# Altium schematic symbol library HARSH_Payload_SchLib.SchLib: 93 symbols (part 3 of 4)
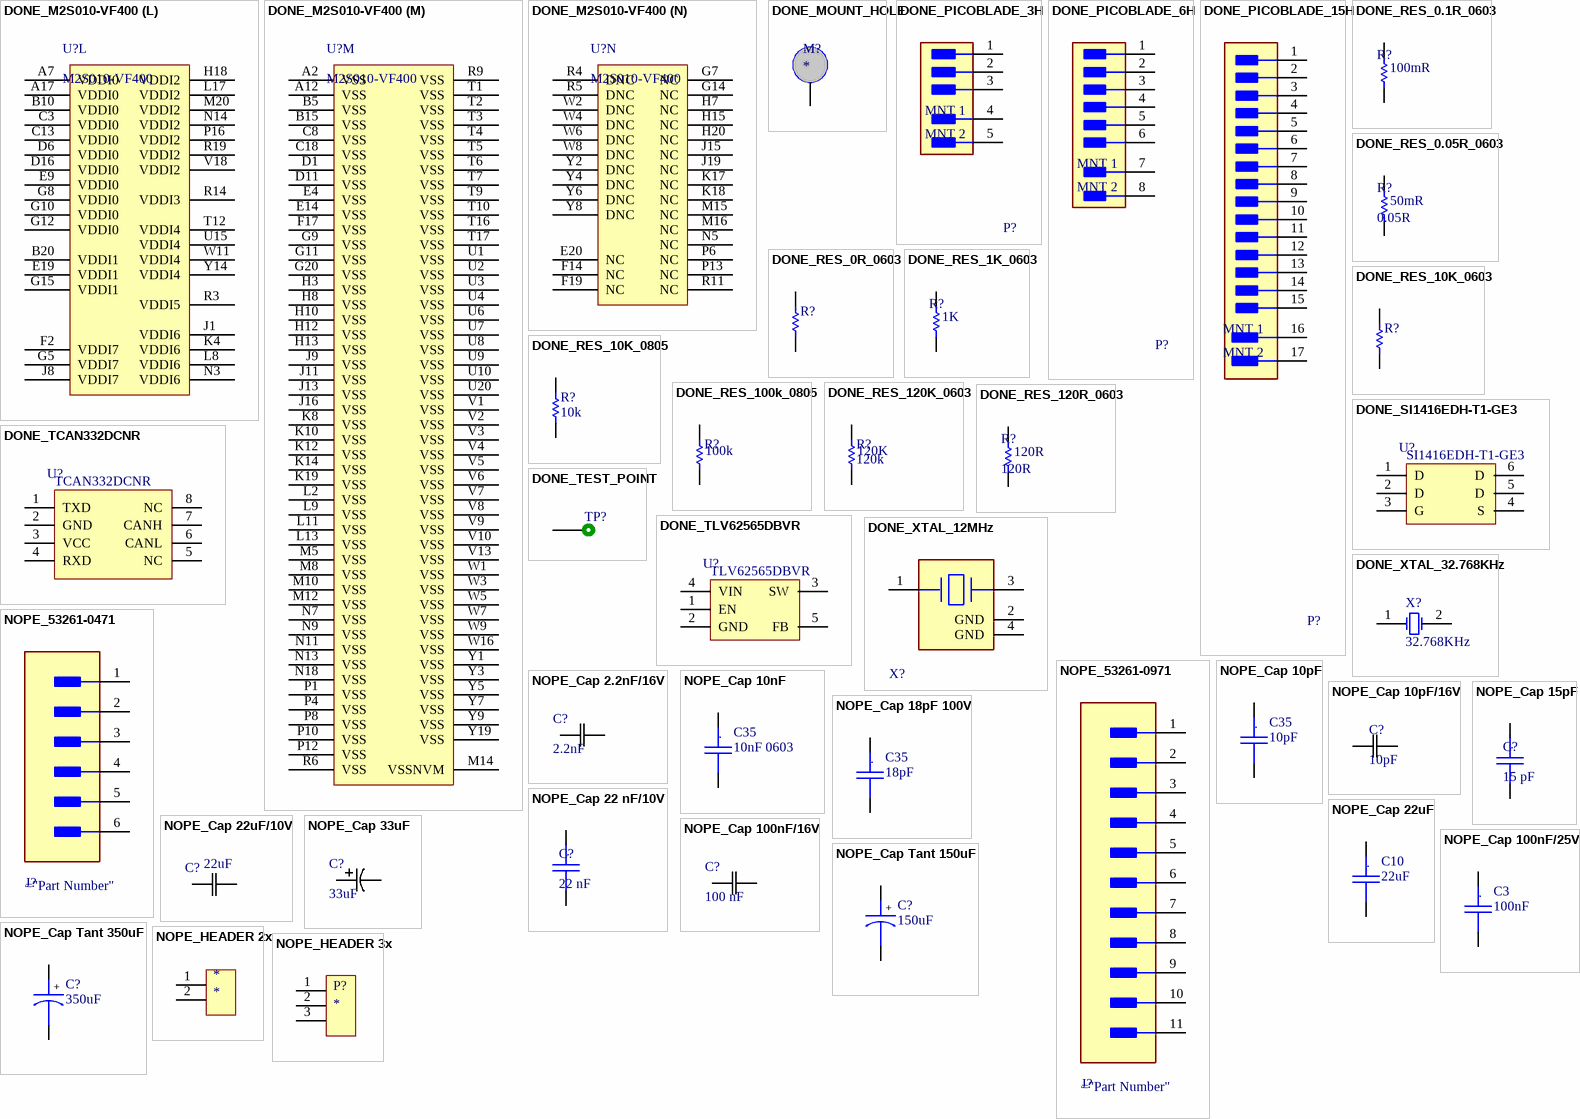
[diagram p5: symbols DONE_M2S010-VF400 to NOPE_HEADER 3x]

## DONE_RES_100k_0805
designator R?, comment 100k
RES 100K OHM 1/8W 1% 0805; Partnumber: AC0805FR-13100KL; Manufacturer: Yageo; Manufacturer Part Number: RC0805FR-07100KL; Temperature Coefficient: 100ppm/°C; Power Rating: 125mW; Voltage Rating (DC): 150V; NCM: 8533.21.20; ComponentLink1Description: https://www.digikey.com/product-detail/en/yageo/RC0805FR-07100KL/311-100KCRCT-ND/730491; ComponentLink1URL: https://www.digikey.com/product-detail/en/yageo/RC0805FR-07100KL/311-100KCRCT-ND/730491; ComponentLink2Description: https://br.mouser.com/ProductDetail/Yageo/RC0805FR-07100KL?qs=%2Fha2pyFadugqH4HCO4lefXR2vnSIcQedeLFD%252BIWbuSwm%252BtiKkObUBg%3D%3D; ComponentLink2URL: https://br.mouser.com/ProductDetail/Yageo/RC0805FR-07100KL?qs=%2Fha2pyFadugqH4HCO4lefXR2vnSIcQedeLFD%252BIWbuSwm%252BtiKkObUBg%3D%3D; Supplier 1: Digi-Key; Supplier Part Number 1: 311-100KCRCT-ND; Stock 1: 5685931; Pricing 1: 1=0.1, 10=0.04, 100=0.0163, 1000=0.00731, 2500=0.00635 (USD); Case/Package: 0805; Number of Pins: 2; Case Code (Metric): 2012; Case Code (Imperial): 0805; Min Operating Temperature: -55°C; Max Operating Temperature: 155°C; Composition: Thick Film; Tolerance: 1%; Packaging: Tape and Reel; Voltage Rating: 150V; Package Quantity: 1; Number of Terminations: 2; Termination: SMD/SMT; Military Standard: Not; Max Power Dissipation: 125mW; Features: Moisture Resistant; Length: 2mm; Height: 0.024inch; Width: 0.049inch; Depth: 1.25mm; Lead Pitch: 0.4mm; REACH SVHC: Unknown; Lead Free: Lead Free; ComponentLink3URL: http://www.yageo.com/documents/recent/PYu-RC_Group_51_RoHS_L_10.pdf?src-supplier=Digi-Key; ComponentLink3Description: http://www.yageo.com/documents/recent/PYu-RC_Group_51_RoHS_L_10.pdf?src-supplier=Digi-Key; ComponentLink4URL: http://www.yageo.com/documents/recent/PYu-RC_Group_51_RoHS_L_9.pdf?src-supplier=Mouser; ComponentLink4Description: http://www.yageo.com/documents/recent/PYu-RC_Group_51_RoHS_L_9.pdf?src-supplier=Mouser; ComponentLink5URL: http://documents.rs-components.com/techlib://itc_doclist_GB.htm?stockno=6185113&src-supplier=RSComponents; ComponentLink5Description: http://documents.rs-components.com/techlib://itc_doclist_GB.htm?stockno=6185113&src-supplier=RSComponents; ComponentLink6URL: http://www.yageo.ru/pdf/RC0805.pdf?src-supplier=Future+Electronics; ComponentLink6Description: http://www.yageo.ru/pdf/RC0805.pdf?src-supplier=Future+Electronics; ComponentLink7URL: http://www.farnell.com/datasheets/38627.pdf?src-supplier=Element14; ComponentLink7Description: http://www.farnell.com/datasheets/38627.pdf?src-supplier=Element14; ComponentLink8URL: http://www.farnell.com/datasheets/2167052.pdf?src-supplier=Element14; ComponentLink8Description: http://www.farnell.com/datasheets/2167052.pdf?src-supplier=Element14; ComponentLink9URL: http://www.farnell.com/datasheets/1686128.pdf?src-supplier=Element14; ComponentLink9Description: http://www.farnell.com/datasheets/1686128.pdf?src-supplier=Element14; ComponentLink10URL: http://www.farnell.com/datasheets/444164.pdf?src-supplier=Element14; ComponentLink10Description: http://www.farnell.com/datasheets/444164.pdf?src-supplier=Element14; Supplier 2: Mouser; Supplier Part Number 2: 603-RC0805FR-07100KL; Stock 2: 2067874; Pricing 2: 1=0.13, 10=0.031, 100=0.011, 1000=0.008, 5000=0.005, 10000=0.005 (USD); Resistance: 100k
footprint DONE_R0805 (Chip Resistor, Body 2.0x1.3mm, IPC Medium Density)
pins: 1, 2

## DONE_RES_120K_0603
designator R?, comment 120k
1/10W 1%  0603; Partnumber: CRCW0603120KFKEAC; Manufacturer: Vishay Beyschlag; Power Rating: 100mW; Voltage Rating: 75V; NCM: 8533.21.20; Manufacturer Part Number: CRCW0603120KFKEAC; Case/Package: 0603; Weight: 7.1E-05oz; Case Code (Imperial): 0603; Case Code (Metric): 1608; Min Operating Temperature: -55°C; Max Operating Temperature: 155°C; Packaging: Tape and Reel; Tolerance: 1%; Termination: SMD/SMT; Composition: Thin Film; Length: 1.55mm; Height: 0.45mm; Width: 0.8mm; Resistance: 120K
footprint DONE_R0603 (Chip Resistor, Body 1.6x0.8mm, IPC Medium Density)
pins: 1, 2

## DONE_RES_120R_0603
designator R?, comment 120R
120R 1% 0603; Partnumber: RC0603FR-07120RL; Resistance: 120R
footprint DONE_R0603 (Chip Resistor, Body 1.6x0.8mm, IPC Medium Density)
pins: 1, 2

## DONE_SI1416EDH-T1-GE3
designator U?, comment SI1416EDH-T1-GE3
MOSFET 30V Vds 12V Vgs SC70-6 SOT-363-6; Manufacturer: Vishay; Mount Type: SMD; Category: MOSFET; Partnumber: SI1416EDH-T1-GE3
footprint DONE_SOT363_6 (SOT23, 6-Leads, Body 2.2x1.35mm, Pitch 0.65mm, IPC Medium Density, NXP-SOT363_N)
pins: 1 D, 2 D, 3 G, 4 S, 5 D, 6 D
1 alternate drawing of the same symbol

## DONE_TCAN332DCNR
designator U?, comment TCAN332DCNR
Tranceiver CAN, 8-pin SOT23; Manufacturer: Texas Instruments; Mounting Technology: Surface Mount; ComponentLink1Description: Manufacturer URL; ComponentLink2Description: Datasheet; ComponentLink3URL: http://cds.linear.com/docs/en/packaging/SOT_8_05-08-1637.pdf; ComponentLink1URL: http://www.linear.com/; ComponentLink2URL: http://cds.linear.com/docs/en/datasheet/436112fb.pdf; ComponentLink3Description: Package Specification; PackageDescription: 8-Pin Plastic TSOT-23, Body 2.9 x 1.63 mm, Pitch 0.65 mm; Partnumber: TCAN332DCNR
footprint DONE_TSOT_23_8 (SOT23, 8-Leads, Body 2.9x1.75mm, Pitch 0.65mm, LT-TS8-8-TSOT-23_V)
pins: 1 TXD, 2 GND, 3 VCC, 4 RXD, 5 NC, 6 CANL, 7 CANH, 8 NC

## DONE_TEST_POINT
designator TP?, comment TEST_POINT  (value not drawn)  (no BOM)
Test point
footprint DONE_TEST_POINT
pins: 1

## DONE_TLV62565DBVR
designator U?, comment TLV62565DBVR
IC REG BUCK ADJ 1.5A SOT23-5; Manufacturer: Texas Instruments; Mount Type: SMD; Category: Regulator; Partnumber: TLV62565DBVR
footprint DONE_SOT23_5
pins: 1 EN, 2 GND, 3 SW, 4 VIN, 5 FB
1 alternate drawing of the same symbol

## DONE_XTAL_12MHz
designator X?, comment ABM8AIG-12.000MHz-12-D2Z-T  (value not drawn)
Crystals 12MHz 12pF 20ppm ESR 100 -40C +85C; Partnumber: ABM8AIG-12.000MHz-12-D2Z-T
footprint DONE_XTAL_ABM8AIG (Abracon_LLC_ABM8AIG_MFG)
pins: 1 1 Crystal, 2 GND (power), 3 2 Crystal, 4 GND (power)

## DONE_XTAL_32.768KHz
designator X?, comment 32.768KHz
Partnumber: LFXTAL009678REEL; Published: 8-Jun-2000; LatestRevisionDate: 17-Jul-2002; LatestRevisionNote: Re-released for DXP Platform.; PackageReference: R38; Publisher: Altium Limited; PackageDescription: Crystal, Thru-Hole; 2 Leads; Body 3.1 x 8.2 mm (Dia.xH)
simulation model XTAL (Spice Subcircuit)
footprint DONE_XTAL (Crystal)
pins: 1 OSC1, 2 OSC2

## NOPE_53261-0471
designator J?  (value not drawn)
footprint Molex_53261-0471_0
pins: 1, 2, 3, 4, 5 MNT 1, 6 MNT 2

## NOPE_53261-0971
designator J?  (value not drawn)
footprint Molex_53261-0971_0
pins: 1, 2, 3, 4, 5, 6, 7, 8, 9, 10 MNT 1, 11 MNT 2

## NOPE_Cap 2.2nF/16V
designator C?, comment 2.2nF
Imported; Manufacturer_Part_Number: GRM155R71C222KA01D; Vendor: Murata; Built_By: EMA_UL_Team; Type: DEV; C: Copyright (C) 2015 Accelerated Designs. All rights reserved; Tolerance: 10%; Dielectric: X7R; Voltage Rating: 16V; RefDes: RefDes; Value: Value; Supplier 1: Digi-Key; Manufacturer: Murata; Manufacturer Part Number: GRM155R71C222KA01D; Stock 1: 125973; Pricing 1: 1=0.1, 10=0.03, 100=0.0134, 500=0.0096, 1000=0.0075, 2500=0.0068, 5000=0.0063 (USD); Mount: Surface Mount; Case/Package: 0402; Case Code (Metric): 1005; Case Code (Imperial): 0402; Min Operating Temperature: -55°C; Max Operating Temperature: 125°C; Capacitance: 2.2nF; Package Quantity: 10000; Packaging: Tape and Reel; Termination: SMD/SMT; Voltage Rating (DC): 16V; Length: 1mm; Height: 0.5mm; Width: 0.02inch; Thickness: 0.022inch; Depth: 0.5mm; Radiation Hardening: No; Lead Free: Lead Free; ComponentLink1URL: https://datasheet.ciiva.com/5412/product-5412216.pdf; ComponentLink1Description: https://datasheet.ciiva.com/5412/product-5412216.pdf; ComponentLink2URL: https://datasheet.ciiva.com/6263/partnumbering-e-01-6263624.pdf; ComponentLink2Description: https://datasheet.ciiva.com/6263/partnumbering-e-01-6263624.pdf; ComponentLink3URL: https://datasheet.ciiva.com/6263/partnumbering-e-01-6263627.pdf; ComponentLink3Description: https://datasheet.ciiva.com/6263/partnumbering-e-01-6263627.pdf; ComponentLink4URL: https://datasheet.ciiva.com/17453/product-17453067.pdf; ComponentLink4Description: https://datasheet.ciiva.com/17453/product-17453067.pdf; ComponentLink5URL: https://datasheet.ciiva.com/11620/product-11620860.pdf; ComponentLink5Description: https://datasheet.ciiva.com/11620/product-11620860.pdf; ComponentLink6URL: https://datasheet.ciiva.com/6263/partnumbering-e-01-6263630.pdf; ComponentLink6Description: https://datasheet.ciiva.com/6263/partnumbering-e-01-6263630.pdf; Supplier Part Number 1: 490-6330-1-ND
footprint G-155
pins: 1, 2

## NOPE_Cap 10nF
designator C35, comment 10nF 0603
CAP CER 10nF 16V 0603; NCM: 8532.24.10
footprint 0603 Cap
pins: 1, 2
text: .

## NOPE_Cap 10pF
designator C35, comment 10pF
CAP CER 10pF 50V 0603; Partnumber: GQM1885C1H100GB01D; NCM: 8532.24.10
footprint CC0603 (TDK mlccspec_commercial_general_midvoltage_en.pdf)
pins: 1, 2
text: .

## NOPE_Cap 10pF/16V
designator C?, comment 10pF
Manufacturer: KEMET; Manufacturer Part Number: C0402C100J4GACTU; Dielectric Material: Ceramic; Tolerance: 5%; Dielectric: C0G; Voltage Rating (DC): 16V; Dissipation Factor: 0.1%; Supplier 1: Digi-Key; Stock 1: 0; Pricing 1: 10000=0.0543 (USD); Mount: Surface Mount; Case/Package: 0402; Case Code (Metric): 1005; Case Code (Imperial): 0402; Min Operating Temperature: -55°C; Max Operating Temperature: 125°C; Capacitance: 10pF; Packaging: Tape and Reel; Package Quantity: 10000; Voltage Rating: 16V; Termination: SMD/SMT; Length: 1mm; Height: 0.5mm; Depth: 0.5mm; Width: 0.02inch; Thickness: 0.022inch; Lead Pitch: 0.3mm; Lead Free: Lead Free; ComponentLink1URL: http://www.mouser.com/ds/2/212/KEM_C1003_C0G_SMD-1101588.pdf; ComponentLink1Description: http://www.mouser.com/ds/2/212/KEM_C1003_C0G_SMD-1101588.pdf; ComponentLink2URL: http://components.arrow.com/part/dataview/3375373S9473221N7429; ComponentLink2Description: http://components.arrow.com/part/dataview/3375373S9473221N7429; ComponentLink3URL: http://www.kemet.com/docfinder?Partnumber=C0402C100J4GACTU; ComponentLink3Description: http://www.kemet.com/docfinder?Partnumber=C0402C100J4GACTU; Supplier Part Number 1: C0402C100J4GACTU-ND
footprint 0402m (0402M)
pins: 1, 2

## NOPE_Cap 15pF
designator C?, comment 15 pF
Manufacturer: KEMET; Manufacturer Part Number: C0402C150J4GACTU; Dielectric Material: Ceramic; Capacitance: 15pF; Tolerance: 5%; Voltage Rating (DC): 16V; Dielectric: C0G; Dissipation Factor: 0.1%; Supplier 1: Digi-Key; Stock 1: 788; Pricing 1: 1=0.1, 10=0.022, 100=0.0099, 500=0.007, 1000=0.0055, 2500=0.005, 5000=0.0046 (USD); Mount: Surface Mount; Case/Package: 0402; Case Code (Metric): 1005; Case Code (Imperial): 0402; Min Operating Temperature: -55°C; Max Operating Temperature: 125°C; Packaging: Tape and Reel; Package Quantity: 1; Voltage Rating: 16V; Termination: SMD/SMT; Length: 1mm; Height: 0.5mm; Depth: 0.5mm; Width: 0.02inch; Thickness: 0.022inch; Lead Pitch: 0.3mm; Lead Free: Lead Free; REACH SVHC: No SVHC; ComponentLink1URL: https://datasheet.ciiva.com/5416/kem-c1003-c0g-smd-356956-5416437.pdf; ComponentLink1Description: https://datasheet.ciiva.com/5416/kem-c1003-c0g-smd-356956-5416437.pdf; Supplier Part Number 1: 399-8947-1-ND
footprint 0402m (0402M)
pins: 1, 2
text: .

## NOPE_Cap 18pF 100V
designator C35, comment 18pF
CAP CER 10pF 100V; Manufacturer: Murata; Manufacturer Part Number: GRM1555C2A180JA01D; Tolerance: 5%; Dielectric: C0G; Supplier 1: Digi-Key; Stock 1: 143735; Pricing 1: 1=0.11, 10=0.078, 100=0.0345, 500=0.0247, 1000=0.0194, 2500=0.0176, 5000=0.0162 (USD); Mount: Surface Mount; Case/Package: 0402; Weight: 0.000212oz; Case Code (Metric): 1005; Case Code (Imperial): 0402; Min Operating Temperature: -55°C; Max Operating Temperature: 125°C; Package Quantity: 10000; Packaging: Tape and Reel; Capacitance: 18pF; Voltage Rating: 100V; Voltage Rating (DC): 100V; Termination: SMD/SMT; Length: 0.039inch; Height: 0.5mm; Width: 0.02inch; Thickness: 0.022inch; Lead Free: Lead Free; ComponentLink1URL: https://datasheet.ciiva.com/18699/partnumbering-e-01-18699434.pdf; ComponentLink1Description: https://datasheet.ciiva.com/18699/partnumbering-e-01-18699434.pdf; ComponentLink2URL: https://datasheet.ciiva.com/18699/partnumbering-e-01-18699435.pdf; ComponentLink2Description: https://datasheet.ciiva.com/18699/partnumbering-e-01-18699435.pdf; ComponentLink3URL: https://datasheet.ciiva.com/18699/partnumbering-e-01-18699436.pdf; ComponentLink3Description: https://datasheet.ciiva.com/18699/partnumbering-e-01-18699436.pdf; ComponentLink4URL: https://datasheet.ciiva.com/24220/c02e-24220655.pdf; ComponentLink4Description: https://datasheet.ciiva.com/24220/c02e-24220655.pdf; Supplier Part Number 1: 490-7302-1-ND
footprint 0402m (0402M)
pins: 1, 2
text: .

## NOPE_Cap 22 nF/10V
designator C?, comment 22 nF
Manufacturer: KEMET; Manufacturer Part Number: C0402C223K8PACTU; Dielectric Material: Ceramic; Capacitance: 22nF; Tolerance: 10%; Voltage Rating (DC): 10V; Dielectric: X5R; Dissipation Factor: 5%; Supplier 1: Digi-Key; Stock 1: 166249; Pricing 1: 1=0.28, 10=0.19, 100=0.1075, 500=0.0759, 1000=0.0664, 2500=0.0633, 5000=0.0585 (USD); Mount: Surface Mount,PCB; Case/Package: 0402; Case Code (Metric): 1005; Case Code (Imperial): 0402; Min Operating Temperature: -55°C; Max Operating Temperature: 85°C; Packaging: Tape and Reel; Voltage Rating: 10V; Package Quantity: 1; Termination: SMD/SMT; Voltage: 10V; Length: 1mm; Height: 0.5mm; Depth: 0.5mm; Width: 0.02inch; Thickness: 0.022inch; Lead Pitch: 0.3mm; Radiation Hardening: No; Lead Free: Lead Free; REACH SVHC: No SVHC; ComponentLink1URL: https://datasheet.ciiva.com/146/docfinderpartnumber-c0402c223k8pactu-146023.pdf; ComponentLink1Description: https://datasheet.ciiva.com/146/docfinderpartnumber-c0402c223k8pactu-146023.pdf; Supplier Part Number 1: 399-3015-1-ND
footprint 0402m (0402M)
pins: 1, 2
text: .

## NOPE_Cap 22uF
designator C10, comment 22uF
CAP CER 22uF 25V 10% X5R 1210; Partnumber: GRM32ER61E226KE15L; NCM: 8532.24.10
footprint CC1210 (TDK mlccspec_commercial_general_midvoltage_en.pdf)
pins: 1, 2
text: .

## NOPE_Cap 22uF/10V
designator C?, comment 22uF
Imported; Manufacturer_Part_Number: GRM188R61A226ME15D; Vendor: Murata; Built_By: EMA_UL_Team; Type: DEV; C: Copyright (C) 2016 Accelerated Designs. All rights reserved; Material: Ceramic; Tolerance: 20%; Voltage Rating: 10V; Dielectric: X5R; RefDes: RefDes; Value: Value; Supplier 1: Digi-Key; Manufacturer: Murata; Manufacturer Part Number: GRM188R61A226ME15D; Stock 1: 15185; Pricing 1: 1=0.31, 10=0.216, 100=0.1222, 500=0.0863, 1000=0.0755 (USD); Mount: Surface Mount; Case/Package: 0603; Weight: 0.000222oz; Case Code (Metric): 1608; Case Code (Imperial): 0603; Min Operating Temperature: -55°C; Max Operating Temperature: 85°C; Packaging: Tape and Reel; Termination: SMD/SMT; Voltage Rating (DC): 10V; Package Quantity: 4000; Length: 1.6mm; Height: 0.8mm; Width: 0.8mm; Thickness: 0.039inch; Depth: 0.8mm; REACH SVHC: No SVHC; Lead Free: Lead Free; ComponentLink1URL: https://datasheet.ciiva.com/46444/1769893-46444975.pdf; ComponentLink1Description: https://datasheet.ciiva.com/46444/1769893-46444975.pdf; Supplier Part Number 1: 490-10476-6-ND; Capacitance: 22uF
footprint CAP_GRM18ME15D_1
footprint CAP_GRM18ME15D_1 (Footprint not found)
pins: 1, 2

## NOPE_Cap 33uF
designator C?, comment 33uF
Imported; Manufacturer_Part_Number: F930J336MAA; Vendor: Nichicon; Built_By: EMA_UL_Team; Type: DEV; C: Copyright (C) 2015 Accelerated Designs. All rights reserved; RefDes: RefDes; Value: Value
footprint PCAP134X71
pins: 1, 2

## NOPE_Cap 100nF/16V
designator C?, comment 100 nF
Imported; Manufacturer_Part_Number: C1005JB1C104K050BA; Vendor: TDK; Built_By: EMA_UL_Team; Type: DEV; C: Copyright (C) 2015 Accelerated Designs. All rights reserved; Dielectric Material: Ceramic; Capacitance: 100nF; Tolerance: 10%; Voltage Rating: 16V; RefDes: RefDes; Value: Value; Supplier 1: Digi-Key; Manufacturer: TDK; Manufacturer Part Number: C1005JB1C104K050BA; Stock 1: 280389; Pricing 1: 1=0.1, 10=0.054, 100=0.0239, 500=0.0171, 1000=0.0134, 2500=0.0122, 5000=0.0112 (USD); Mount: Surface Mount; Case/Package: 0402; Weight: 0.001199oz; Case Code (Metric): 1005; Case Code (Imperial): 0402; Min Operating Temperature: -25°C; Max Operating Temperature: 85°C; Package Quantity: 10000; Packaging: Tape and Reel; Termination: SMD/SMT; Composition: Ceramic; Voltage Rating (DC): 16V; Length: 0.039inch; Height: 0.5mm; Width: 0.5mm; Thickness: 0.022inch; Lead Free: Lead Free; ComponentLink1URL: https://datasheet.ciiva.com/14901/tdkmlcccaprange-14901675.pdf; ComponentLink1Description: https://datasheet.ciiva.com/14901/tdkmlcccaprange-14901675.pdf; ComponentLink2URL: https://datasheet.ciiva.com/14901/tdkmlcccaprange-14901676.pdf; ComponentLink2Description: https://datasheet.ciiva.com/14901/tdkmlcccaprange-14901676.pdf; ComponentLink3URL: https://datasheet.ciiva.com/14901/tdkmlcccaprange-14901678.pdf; ComponentLink3Description: https://datasheet.ciiva.com/14901/tdkmlcccaprange-14901678.pdf; Supplier Part Number 1: 445-10920-1-ND
footprint 0402M
pins: 1, 2

## NOPE_Cap 100nF/25V
designator C3, comment 100nF
CAP CER 0.1UF 25V 10% X7R 0805; Partnumber: CC0805KRX7R8BB104; NCM: 8532.24.10
footprint CC0805 (TDK mlccspec_commercial_general_midvoltage_en.pdf)
pins: 1, 2
text: .

## NOPE_Cap Tant 150uF
designator C?, comment 150uF
CAP Tantalum 150uF 6.3V 10% CASE D; Partnumber: TPSD157K006R0050; NCM: 8532.21.11
footprint CC2917 (Molded Capacitor, 2-Leads, Body 7,30x4,35mm, IPC Medium Density)
pins: 1, 2
text: +

## NOPE_Cap Tant 350uF
designator C?, comment 350uF
CAP Tantalum 150uF 6.3V 10% CASE D; Manufacturer: Kyocera AVX; Manufacturer Part Number: TPSE337K010T0060V; Supplier 1: Mouser; Stock 1: 0; ComponentLink1Description: digikey; ComponentLink1URL: https://www.digikey.com/product-detail/en/avx-corporation/TPSE337K010T0060V/478-11253-2-ND/7567003; Supplier Part Number 1: 581-TPSE337K010T060V
footprint CC2917 (Molded Capacitor, 2-Leads, Body 7,30x4,35mm, IPC Medium Density)
pins: 1, 2
text: +

## NOPE_HEADER 2x
designator *
Conn Unshrouded Header HDR 2 POS 2.54mm Solder RA Thru-Hole Automotive Bulk; Manufacturer: Samtec; Manufacturer Part Number: TSW-102-08-G-S-RA; Number of Positions: 2; Connector Type: Male Pin; Gender: Male; Max Current Rating: 7.6A; Max Voltage Rating (AC): 450V; Supplier 1: Digi-Key; Stock 1: 681; Pricing 1: 1=0.28, 10=0.269, 25=0.2304, 50=0.1958, 100=0.1882, 250=0.16896, 500=0.16128 (USD); Contact Plating: Gold; Contact Material: Bronze; Color: Black; Housing Color: Black; Housing Material: Polyester; Min Operating Temperature: -55°C; Max Operating Temperature: 125°C; Number of Rows: 1; Termination: Solder; Packaging: Bulk; Number of Contacts: 2; Orientation: Right Angle; Package Quantity: 1; Length: 5.08mm; Pitch: 2.54mm; Width: 2.54mm; Depth: 9.9mm; Contact Mating Length: 0.23inch; Radiation Hardening: No; Lead Free: Lead Free; REACH SVHC: No SVHC; Supplier Part Number 1: SAM1039-02-ND; ComponentLink3Description: https://www.digikey.com/product-detail/en/samtec-inc/TSW-102-08-G-S-RA/SAM1039-02-ND/1101822; ComponentLink3URL: https://www.digikey.com/product-detail/en/samtec-inc/TSW-102-08-G-S-RA/SAM1039-02-ND/1101822; ComponentLink4Description: https://br.mouser.com/ProductDetail/Samtec/TSW-102-08-G-S-RA?qs=sGAEpiMZZMs%252BGHln7q6pm8Vn94ktop%2FJ1uezLg%252BX1dFCcXJp94NfRw%3D%3D; ComponentLink4URL: https://br.mouser.com/ProductDetail/Samtec/TSW-102-08-G-S-RA?qs=sGAEpiMZZMs%252BGHln7q6pm8Vn94ktop%2FJ1uezLg%252BX1dFCcXJp94NfRw%3D%3D; ComponentLink1URL: http://www.samtec.com/ftppub/pdf/htsw_th.pdf?src-supplier=Avnet; ComponentLink1Description: http://www.samtec.com/ftppub/pdf/htsw_th.pdf?src-supplier=Avnet; ComponentLink2URL: http://suddendocs.samtec.com/prints/tsw-xxx-xx-x-x-xx-xxx-footprint.pdf?src-supplier=Digi-Key; ComponentLink2Description: http://suddendocs.samtec.com/prints/tsw-xxx-xx-x-x-xx-xxx-footprint.pdf?src-supplier=Digi-Key; Supplier 2: Mouser; Supplier Part Number 2: 200-TSW10208GSRA; Stock 2: 90; Pricing 2: 1=0.29, 10=0.203, 100=0.167, 1000=0.14, 2500=0.119, 10000=0.108 (USD)
footprint HEADER 1X2
pins: 1, 2

## NOPE_HEADER 3x
designator P?
Conn Unshrouded Header HDR 3 POS 2.54mm Solder RA Thru-Hole Automotive Bulk; Manufacturer: Samtec; Manufacturer Part Number: TSW-103-08-G-S-RA; Number of Contacts: 3; Connector Type: Male Pin; Gender: Male; Max Current Rating: 7.6A; Max Voltage Rating (AC): 450V; Supplier 1: Digi-Key; Stock 1: 2099; Pricing 1: 1=0.43, 10=0.403, 25=0.3456, 50=0.2938, 100=0.2822, 250=0.25344, 500=0.24192 (USD); Contact Plating: Gold; Contact Material: Bronze; Color: Black; Housing Color: Black; Housing Material: Polyester; Min Operating Temperature: -55°C; Max Operating Temperature: 125°C; Number of Rows: 1; Termination: Solder; Packaging: Bulk; Number of Positions: 3; Package Quantity: 1; Orientation: Right Angle; Length: 7.62mm; Pitch: 2.54mm; Depth: 9.9mm; Contact Mating Length: 0.23inch; Width: 2.54mm; Radiation Hardening: No; REACH SVHC: No SVHC; Lead Free: Lead Free; Supplier Part Number 1: SAM1039-03-ND; ComponentLink4Description: https://www.digikey.com/product-detail/en/samtec-inc/TSW-103-08-G-S-RA/SAM1039-03-ND/1101821; ComponentLink4URL: https://www.digikey.com/product-detail/en/samtec-inc/TSW-103-08-G-S-RA/SAM1039-03-ND/1101821; ComponentLink5Description: https://br.mouser.com/ProductDetail/Samtec/TSW-103-08-G-S-RA?qs=sGAEpiMZZMs%252BGHln7q6pm1g2HIpDMMemHovqpYNR5zQ9xV6Y7S0zpg%3D%3D; ComponentLink5URL: https://br.mouser.com/ProductDetail/Samtec/TSW-103-08-G-S-RA?qs=sGAEpiMZZMs%252BGHln7q6pm1g2HIpDMMemHovqpYNR5zQ9xV6Y7S0zpg%3D%3D; ComponentLink1URL: http://www.samtec.com/ftppub/pdf/htsw_th.pdf?src-supplier=Avnet+Europe; ComponentLink1Description: http://www.samtec.com/ftppub/pdf/htsw_th.pdf?src-supplier=Avnet+Europe; ComponentLink2URL: http://www.samtec.com/ftppub/pdf/htsw_th.pdf?src-supplier=Avnet; ComponentLink2Description: http://www.samtec.com/ftppub/pdf/htsw_th.pdf?src-supplier=Avnet; ComponentLink3URL: http://suddendocs.samtec.com/prints/tsw-xxx-xx-x-x-xx-xxx-footprint.pdf?src-supplier=Digi-Key; ComponentLink3Description: http://suddendocs.samtec.com/prints/tsw-xxx-xx-x-x-xx-xxx-footprint.pdf?src-supplier=Digi-Key; Supplier 2: Mouser; Supplier Part Number 2: 200-TSW10308GSRA; Stock 2: 1859; Pricing 2: 1=0.44, 10=0.303, 100=0.249, 1000=0.208, 2500=0.178, 10000=0.16 (USD)
footprint Header1x3
pins: 1, 2, 3

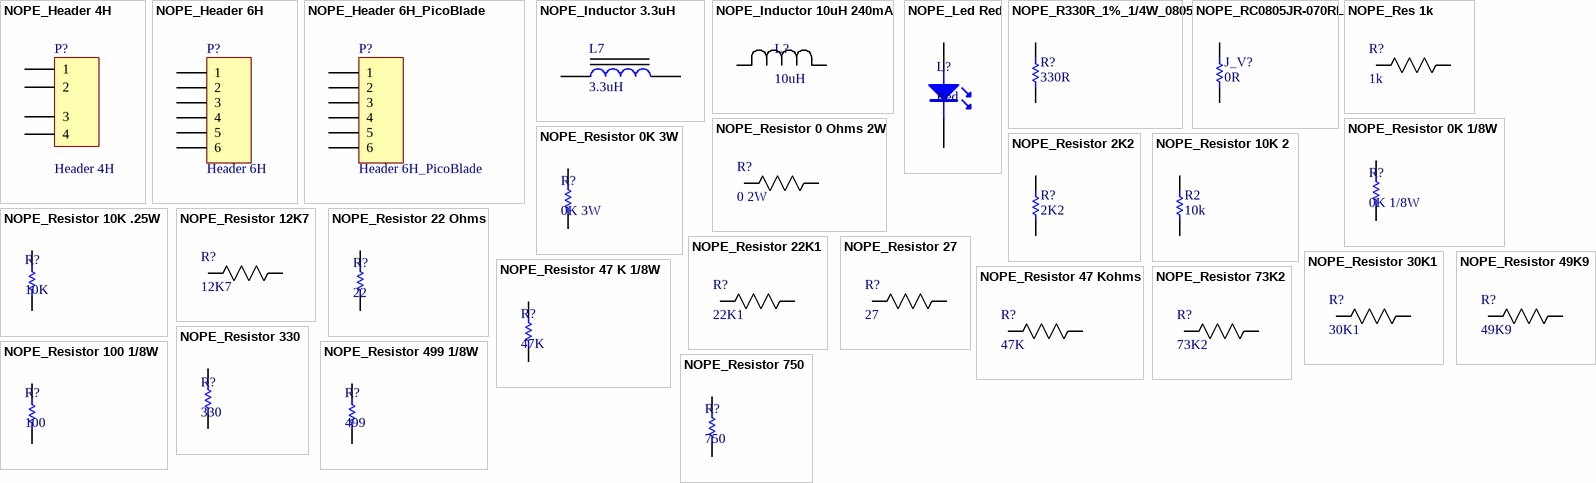
[diagram p3: symbols NOPE_Header 4H to NOPE_Resistor 750]

## NOPE_Header 4H
designator P?, comment Header 4H
Header, 4-Pin, Right Angle; LatestRevisionDate: 17-Jul-2002; LatestRevisionNote: Re-released for DXP Platform.; Publisher: Altium Limited
footprint HDR1X4 (Connector; Header; 4 Position)
pins: 1, 2, 3, 4

## NOPE_Header 6H
designator P?, comment Header 6H
Header, 6-Pin, Right Angle; LatestRevisionDate: 17-Jul-2002; LatestRevisionNote: Re-released for DXP Platform.; Publisher: Altium Limited
footprint HDR1X6H (Connector; Header; 6 Position; Right Angle)
signal-integrity model Connector
pins: 1, 2, 3, 4, 5, 6

## NOPE_Header 6H_PicoBlade
designator P?, comment Header 6H_PicoBlade
Header, 6-Pin, Right Angle; Partnumber: 53398-0671; LatestRevisionDate: 17-Jul-2002; LatestRevisionNote: Re-released for DXP Platform.; Publisher: Altium Limited
footprint HDR6 PicoBlade
signal-integrity model Connector
pins: 1, 2, 3, 4, 5, 6

## NOPE_Inductor 3.3uH
designator L7, comment 3.3uH
INDUCTOR 3.3UH 6.5A SMD; Partnumber: SRP6540-3R3M; NCM: 8504.50.00
footprint Ind_SRP6540
pins: 1, 2

## NOPE_Inductor 10uH 240mA
designator L?, comment 10uH
Manufacturer: KEMET; Manufacturer Part Number: L0805C100MDWIT; Core Material: Ferrite; Tolerance: 20%; Max DC Current: 340mA; Shielding: Unshielded; Current Rating: 240mA; Self Resonant Frequency: 40MHz; DC Resistance (DCR): 1.2R; Test Frequency: 2.52MHz; Supplier 1: Digi-Key; Stock 1: 6518; Pricing 1: 1=0.41, 10=0.356, 100=0.2542, 500=0.2135, 1000=0.1728 (USD); Mount: Surface Mount; Case/Package: 0805; Case Code (Metric): 2012; Case Code (Imperial): 0805; Min Operating Temperature: -40°C; Max Operating Temperature: 105°C; Inductance: 10uh; Packaging: Tape and Reel; Package Quantity: 1; Inductance Tolerance: 20%; Composition: Wirewound,Ceramic; Termination: SMD/SMT; DC Current: 340mA; Military Standard: Not; Length: 0.083inch; Height: 1.25mm; Width: 0.059inch; Height - Seated (Max): 0.041inch; Depth: 1.45mm; Radiation Hardening: No; REACH SVHC: No SVHC; ComponentLink1URL: https://datasheet.ciiva.com/8004/27262-8004846.pdf; ComponentLink1Description: https://datasheet.ciiva.com/8004/27262-8004846.pdf; ComponentLink2URL: https://datasheet.ciiva.com/6699/f3115-6699151.pdf; ComponentLink2Description: https://datasheet.ciiva.com/6699/f3115-6699151.pdf; ComponentLink3URL: https://datasheet.ciiva.com/8004/27262-8004847.pdf; ComponentLink3Description: https://datasheet.ciiva.com/8004/27262-8004847.pdf; Supplier Part Number 1: 399-9582-1-ND
footprint 0805m (0805M)
pins: 1, 2

## NOPE_Led Red
designator L?, comment Red
Manufacturer: Kingbright; Manufacturer Part Number: APHHS1005LSECK/J3-PF; ComponentLink1Description: datasheet; ComponentLink1URL: http://www.kingbrightusa.com/images/catalog/SPEC/APHHS1005LSECK-J3-PF.pdf; Supplier 1: Digi-Key; Stock 1: 2494; Pricing 1: 1=0.57, 10=0.446, 25=0.372, 100=0.3203, 250=0.286, 500=0.246, 1000=0.1899 (USD); Supplier Part Number 1: 754-2123-1-ND
footprint led red (Led Red)
pins: 1 A, 2 K

## NOPE_R330R_1%_1/4W_0805
designator R?, comment 330R
RES 330R OHM 1/4W 1% 0805; Partnumber: RC0805FR-07330RL; Manufacturer: KOA Speer; Manufacturer Part Number: RK73H2ATTD3300F; Power Rating: 125mW; Voltage Rating: 150V; Temperature Coefficient: 100ppm/°C; NCM: 8533.21.20; ComponentLink1Description: https://www.digikey.com/product-detail/en/koa-speer-electronics-inc/RK73H2ATTD3300F/2019-RK73H2ATTD3300FCT-ND/10235463; ComponentLink1URL: https://www.digikey.com/product-detail/en/koa-speer-electronics-inc/RK73H2ATTD3300F/2019-RK73H2ATTD3300FCT-ND/10235463; ComponentLink2Description: https://br.mouser.com/ProductDetail/KOA-Speer/RK73H2ATTD3300F?qs=%2Fha2pyFadugxRkEvlrt8CF%252BQdweyO24kpRel1WKIEPxDUp0ygGBU5A%3D%3D; ComponentLink2URL: https://br.mouser.com/ProductDetail/KOA-Speer/RK73H2ATTD3300F?qs=%2Fha2pyFadugxRkEvlrt8CF%252BQdweyO24kpRel1WKIEPxDUp0ygGBU5A%3D%3D; Supplier 1: Digi-Key; Supplier Part Number 1: 2019-RK73H2ATTD3300FCT-ND; Stock 1: 55895; Pricing 1: 1=0.1, 10=0.033, 100=0.0136, 1000=0.00612, 2500=0.00531 (USD); Case/Package: 0805; Case Code (Imperial): 0805; Case Code (Metric): 2012; Min Operating Temperature: -55°C; Max Operating Temperature: 155°C; Packaging: Tape and Reel; Package Quantity: 5000; Resistance: 330R; Tolerance: 1%; Composition: Thick Film; Termination: SMD/SMT; Military Standard: Not; Length: 2mm; Height: 0.5mm; Width: 1.25mm; Depth: 1.25mm; REACH SVHC: Unknown; Lead Free: Lead Free; ComponentLink3URL: http://www.koaspeer.com/catimages/Products/RK73H/RK73H.pdf?src-supplier=Mouser; ComponentLink3Description: http://www.koaspeer.com/catimages/Products/RK73H/RK73H.pdf?src-supplier=Mouser; ComponentLink4URL: http://www.farnell.com/datasheets/1832268.pdf?src-supplier=Element14; ComponentLink4Description: http://www.farnell.com/datasheets/1832268.pdf?src-supplier=Element14; Supplier 2: Mouser; Supplier Part Number 2: 660-RK73H2ATTD3300F; Stock 2: 0; Pricing 2: 1=0.1, 10=0.033, 100=0.013, 1000=0.005, 5000=0.005, 10000=0.004 (USD)
footprint 0805
pins: 1, 2

## NOPE_RC0805JR-070RL
designator J_V?, comment 0R
RES 0R OHM 1/8W JUMPER 0805; Partnumber: CRCW08050000Z0EA; Manufacturer: Yageo; Manufacturer Part Number: RC0805JR-070RL; Resistance: 0mR; Tolerance: 5%; Power Rating: 125mW; Voltage Rating: 150V; Temperature Coefficient: 200ppm/°C; NCM: 8533.21.20; Supplier 1: Digi-Key; Supplier Part Number 1: 311-0.0ARCT-ND; Stock 1: 10579520; Pricing 1: 1=0.1, 10=0.035, 25=0.0248, 50=0.019, 100=0.014, 250=0.01072, 500=0.00856, 1000=0.00631 (USD); Case/Package: 0805; Number of Pins: 2; Contact Plating: Tin,Matte; Case Code (Imperial): 0805; Case Code (Metric): 2012; Min Operating Temperature: -55°C; Max Operating Temperature: 155°C; Composition: Thick Film; Packaging: Tape and Reel; Voltage Rating (DC): 150V; Termination: SMD/SMT; Military Standard: Not; Length: 2mm; Height: 0.5mm; Width: 1.25mm; Depth: 1.25mm; Radiation Hardening: No; REACH SVHC: Unknown; Lead Free: Lead Free; ComponentLink1URL: http://www.farnell.com/datasheets/2167052.pdf?src-supplier=Element14; ComponentLink1Description: http://www.farnell.com/datasheets/2167052.pdf?src-supplier=Element14; ComponentLink2URL: http://documents.rs-components.com/techlib://itc_doclist_GB.htm?stockno=6185129&src-supplier=RSComponents; ComponentLink2Description: http://documents.rs-components.com/techlib://itc_doclist_GB.htm?stockno=6185129&src-supplier=RSComponents; ComponentLink3URL: https://www.verical.com/server-webapp/html/getDatasheet?partID=330685&src-supplier=Verical; ComponentLink3Description: https://www.verical.com/server-webapp/html/getDatasheet?partID=330685&src-supplier=Verical; Supplier 2: Mouser; Supplier Part Number 2: 603-RC0805JR-070RL; Stock 2: 658275; Pricing 2: 1=0.1, 10=0.005, 100=0.005, 1000=0.005, 5000=0.004, 10000=0.004 (USD)
footprint 0805
pins: 1, 2

## NOPE_Res 1k
designator R?, comment 1k
Imported; Manufacturer: Susumu; Manufacturer Part Number: RR0816P-1023-D-02D; Resistance: 102kR; Tolerance: 0.5%; Power Rating: 62.5mW; Voltage Rating: 75V; Temperature Coefficient: 25ppm/°C; Max Power Dissipation: 63mW; Supplier 1: Digi-Key; Stock 1: 4324; Pricing 1: 1=0.11, 10=0.098, 100=0.0376, 1000=0.0165, 2500=0.0143 (USD); Case/Package: 0603; Case Code (Metric): 1608; Case Code (Imperial): 0603; Min Operating Temperature: -55°C; Max Operating Temperature: 125°C; Package Quantity: 1; Packaging: Tape and Reel; Composition: Thin Film; Number of Terminations: 2; Termination: SMD/SMT; Voltage Rating (DC): 75V; Length: 0.063inch; Height: 0.02inch; Width: 0.031inch; Lead Free: Lead Free; ComponentLink1URL: https://datasheet.ciiva.com/2497/rr-data-sheet-2497771.pdf; ComponentLink1Description: https://datasheet.ciiva.com/2497/rr-data-sheet-2497771.pdf; ComponentLink2URL: https://datasheet.ciiva.com/2497/rr-data-sheet-2497772.pdf; ComponentLink2Description: https://datasheet.ciiva.com/2497/rr-data-sheet-2497772.pdf; ComponentLink3URL: https://datasheet.ciiva.com/2497/rr-data-sheet-2497773.pdf; ComponentLink3Description: https://datasheet.ciiva.com/2497/rr-data-sheet-2497773.pdf; Supplier Part Number 1: RR08P102KDCT-ND
footprint 0402m (0402M)
pins: 1, 2

## NOPE_Resistor 0 Ohms 2W
designator R?, comment 0 2W
Imported; Manufacturer: Stackpole Electronics; Manufacturer Part Number: HCJ2512ZT0R00; Resistance: 0mR; Supplier 1: Digi-Key; Stock 1: 23444; Pricing 1: 1=0.68, 10=0.484, 25=0.3776, 50=0.3194, 100=0.2517, 250=0.213, 500=0.1742, 1000=0.1355 (USD); Mount: Surface Mount; Case/Package: 2512; Case Code (Metric): 6432; Case Code (Imperial): 2512; Min Operating Temperature: -55°C; Max Operating Temperature: 155°C; Packaging: Tape and Reel; Number of Terminations: 2; Length: 0.248inch; Height: 0.026inch; Width: 0.126inch; Radiation Hardening: No; Lead Free: Lead Free; ComponentLink1URL: http://www.seielect.com/Catalog/SEI-HCJ.pdf; ComponentLink1Description: http://www.seielect.com/Catalog/SEI-HCJ.pdf; Supplier Part Number 1: HCJ2512ZT0R00CT-ND
footprint RCL1225
pins: 1, 2

## NOPE_Resistor 0K 1/8W
designator R?, comment 0K 1/8W
Manufacturer Part Number: HCJ0402ZT0R00; Resistance: 0; Pricing 1: 1=0.1, 10=0.014, 100=0.0056, 1000=0.0025, 2500=0.0022, 5000=0.0018 (USD); Case/Package: 0402; Case Code (Imperial): 0402; Military Standard: Not
footprint 0402m (0402M)
pins: 1, 2

## NOPE_Resistor 0K 3W
designator R?, comment 0K 3W
Manufacturer: TE Connectivity AMP; Manufacturer Part Number: 2176230-1; Resistance: 0mR; Voltage Rating (DC): 250V; Supplier 1: Digi-Key; Stock 1: 13312; Pricing 1: 1=0.81, 10=0.596, 100=0.3472, 1000=0.1947 (USD); Power Rating: 3W; Packaging: Tape and Reel; Supplier Part Number 1: A121322CT-ND
footprint 0K 3W
pins: 1, 2

## NOPE_Resistor 2K2
designator R?, comment 2K2
1/8W 1%  0603; Partnumber: MCT06030C2201FP500; Manufacturer: Vishay Beyschlag; Manufacturer Part Number: MCT0603MC1002FP500; Resistance: 10kR; Power Rating: 125mW; Voltage Rating: 75V; NCM: 8533.21.20; Supplier 1: Digi-Key; Stock 1: 29986; Pricing 1: 1=0.37, 10=0.313, 100=0.1222, 1000=0.0511, 2500=0.0469 (USD); Case/Package: 0603; Weight: 7.1E-05oz; Case Code (Imperial): 0603; Case Code (Metric): 1608; Min Operating Temperature: -55°C; Max Operating Temperature: 155°C; Packaging: Tape and Reel; Tolerance: 1%; Package Quantity: 5000; Termination: SMD/SMT; Composition: Thin Film; Length: 1.6mm; Height: 0.45mm; Width: 0.8mm; Supplier Part Number 1: MCT0603-10.0K-MFCT-ND
footprint 0603 res (0603 Res)
pins: 1, 2

## NOPE_Resistor 10K 2
designator R2, comment 10k
1/10W 1%; Manufacturer: Panasonic; Manufacturer Part Number: ERJ-2RKF1002X; Resistance: 10kR; Temperature Coefficient: 100ppm/°C; Power Rating: 100mW; Voltage Rating: 50V; Supplier 1: Digi-Key; Stock 1: 9393444; Pricing 1: 1=0.1, 10=0.043, 100=0.0176, 1000=0.0079, 2500=0.0069, 5000=0.0057 (USD); Mount: Surface Mount; Case/Package: 0402; Number of Pins: 2; Contact Plating: Tin; Case Code (Metric): 1005; Case Code (Imperial): 0402; Min Operating Temperature: -55°C; Max Operating Temperature: 155°C; Tolerance: 1%; Composition: Thick Film; Packaging: Tape and Reel; Package Quantity: 1; Number of Terminations: 2; Termination: SMD/SMT; Military Standard: Not; Max Power Dissipation: 100mW; Voltage Rating (DC): 50V; Length: 1mm; Height: 0.35mm; Width: 0.02inch; Depth: 0.5mm; Radiation Hardening: No; REACH SVHC: No SVHC; Lead Free: Lead Free; ComponentLink1URL: https://datasheet.ciiva.com/11821/0900766b80f80784-11821171.pdf; ComponentLink1Description: https://datasheet.ciiva.com/11821/0900766b80f80784-11821171.pdf; ComponentLink2URL: https://datasheet.ciiva.com/16199/aoa0000ce2-16199478.pdf; ComponentLink2Description: https://datasheet.ciiva.com/16199/aoa0000ce2-16199478.pdf; ComponentLink3URL: https://datasheet.ciiva.com/17212/aoa0000ce2-17212102.pdf; ComponentLink3Description: https://datasheet.ciiva.com/17212/aoa0000ce2-17212102.pdf; ComponentLink4URL: https://datasheet.ciiva.com/24023/aoa0000ce2-24023017.pdf; ComponentLink4Description: https://datasheet.ciiva.com/24023/aoa0000ce2-24023017.pdf; ComponentLink5URL: https://datasheet.ciiva.com/28514/1678782-28514185.pdf; ComponentLink5Description: https://datasheet.ciiva.com/28514/1678782-28514185.pdf; ComponentLink6URL: https://datasheet.ciiva.com/43467/1678782-43467402.pdf; ComponentLink6Description: https://datasheet.ciiva.com/43467/1678782-43467402.pdf; ComponentLink7URL: https://datasheet.ciiva.com/27055/1987020-27055643.pdf; ComponentLink7Description: https://datasheet.ciiva.com/27055/1987020-27055643.pdf; ComponentLink8URL: https://datasheet.ciiva.com/48531/aoa0000ce2-48531069.pdf; ComponentLink8Description: https://datasheet.ciiva.com/48531/aoa0000ce2-48531069.pdf; ComponentLink9URL: https://datasheet.ciiva.com/9194/aoa0000ce2-9194142.pdf; ComponentLink9Description: https://datasheet.ciiva.com/9194/aoa0000ce2-9194142.pdf; ComponentLink10URL: https://datasheet.ciiva.com/16782/70260748-16782590.pdf; ComponentLink10Description: https://datasheet.ciiva.com/16782/70260748-16782590.pdf; ComponentLink11URL: https://datasheet.ciiva.com/16786/70260748-16786734.pdf; ComponentLink11Description: https://datasheet.ciiva.com/16786/70260748-16786734.pdf; ComponentLink12URL: https://datasheet.ciiva.com/30201/aoa0000ce2-30201022.pdf; ComponentLink12Description: https://datasheet.ciiva.com/30201/aoa0000ce2-30201022.pdf; Supplier Part Number 1: P10.0KLCT-ND
footprint 0402M
pins: 1, 2

## NOPE_Resistor 10K .25W
designator R?, comment 10K
Part Num: ESR03EZPF1002; Manufacturer: Rohm; data: 1% 1/4W 0603; Tolerance: 1%; Resistance: 10kR; Power Rating: 250mW; Temperature Coefficient: 100ppm/°C; Supplier 1: Digi-Key; Manufacturer Part Number: ESR03EZPF1002; Stock 1: 9340; Pricing 1: 1=0.14, 10=0.126, 100=0.0484, 1000=0.0213, 2500=0.0184 (USD); Case/Package: 0603; Case Code (Metric): 1608; Case Code (Imperial): 0603; Min Operating Temperature: -55°C; Max Operating Temperature: 155°C; Package Quantity: 1; Packaging: Tape and Reel; Composition: Thick Film; Number of Terminations: 2; Max Power Dissipation: 250mW; Length: 0.063inch; Height: 0.022inch; Width: 0.031inch; Lead Free: Lead Free; ComponentLink1URL: https://datasheet.ciiva.com/2469/esr-2469709.pdf; ComponentLink1Description: https://datasheet.ciiva.com/2469/esr-2469709.pdf; ComponentLink2URL: https://datasheet.ciiva.com/2469/esr-2469710.pdf; ComponentLink2Description: https://datasheet.ciiva.com/2469/esr-2469710.pdf; ComponentLink3URL: https://datasheet.ciiva.com/2469/esr-2469711.pdf; ComponentLink3Description: https://datasheet.ciiva.com/2469/esr-2469711.pdf; Supplier Part Number 1: RHM10KADCT-ND
footprint 0603 2
pins: 1, 2

## NOPE_Resistor 12K7
designator R?, comment 12K7
Imported; Manufacturer: Panasonic; Manufacturer Part Number: ERJ-2RKF1272X; Resistance: 12.7kR; Tolerance: 1%; Power Rating: 100mW; Voltage Rating: 50V; Temperature Coefficient: 100ppm/°C; Supplier 1: Digi-Key; Stock 1: 4957; Pricing 1: 1=0.1, 10=0.043, 100=0.0176, 1000=0.0079, 2500=0.0069, 5000=0.0057 (USD); Mount: Surface Mount; Case/Package: 0402; Case Code (Imperial): 0402; Case Code (Metric): 1005; Contact Plating: Tin; Min Operating Temperature: -55°C; Max Operating Temperature: 155°C; Packaging: Tape and Reel; Package Quantity: 1; Termination: SMD/SMT; Composition: Thick Film; Number of Terminations: 2; Military Standard: Not; Max Power Dissipation: 100mW; Voltage Rating (DC): 50V; Length: 1mm; Height: 0.016inch; Width: 0.5mm; Depth: 0.5mm; REACH SVHC: No SVHC; Lead Free: Lead Free; ComponentLink1URL: https://datasheet.ciiva.com/30242/aoa0000ce2-30242981.pdf; ComponentLink1Description: https://datasheet.ciiva.com/30242/aoa0000ce2-30242981.pdf; ComponentLink2URL: https://datasheet.ciiva.com/9193/aoa0000ce2-9193367.pdf; ComponentLink2Description: https://datasheet.ciiva.com/9193/aoa0000ce2-9193367.pdf; ComponentLink3URL: https://datasheet.ciiva.com/22668/1678782-22668615.pdf; ComponentLink3Description: https://datasheet.ciiva.com/22668/1678782-22668615.pdf; ComponentLink4URL: https://datasheet.ciiva.com/28531/1694929-28531480.pdf; ComponentLink4Description: https://datasheet.ciiva.com/28531/1694929-28531480.pdf; ComponentLink5URL: https://datasheet.ciiva.com/46373/1678782-46373001.pdf; ComponentLink5Description: https://datasheet.ciiva.com/46373/1678782-46373001.pdf; ComponentLink6URL: https://datasheet.ciiva.com/46373/1678782-46373002.pdf; ComponentLink6Description: https://datasheet.ciiva.com/46373/1678782-46373002.pdf; Supplier Part Number 1: P12.7KLCT-ND
footprint 0402m (0402M)
pins: 1, 2

## NOPE_Resistor 22 Ohms
designator R?, comment 22
Manufacturer: Yageo; Manufacturer Part Number: ERJ-2GEJ220X; Tolerance: 1%; Power Rating: 63mW; Voltage Rating: 50V; Temperature Coefficient: 100ppm/°C; Stock 1: 1591435; Pricing 1: 1=0.1, 10=0.014, 100=0.0056, 1000=0.0025, 2500=0.0022, 5000=0.0018 (USD); Case/Package: 0402; Weight: 2.3E-05oz; Case Code (Imperial): 0402; Case Code (Metric): 1005; Min Operating Temperature: -55°C; Max Operating Temperature: 155°C; Packaging: Tape and Reel; Resistance: 22; Termination: SMD/SMT; Composition: Thick Film; Military Standard: Not; Length: 1mm; Height: 0.35mm; Width: 0.5mm; Depth: 0.5mm; REACH SVHC: Unknown; Lead Free: Lead Free
footprint 0402m (0402M)
pins: 1, 2

## NOPE_Resistor 22K1
designator R?, comment 22K1
Imported; Manufacturer: Panasonic; Manufacturer Part Number: ERJ-2RKF2212X; Resistance: 22.1kR; Power Rating: 100mW; Tolerance: 1%; Voltage Rating: 50V; Temperature Coefficient: 100ppm/°C; Supplier 1: Digi-Key; Stock 1: 308950; Pricing 1: 1=0.1, 10=0.043, 100=0.0176, 1000=0.0079, 2500=0.0069, 5000=0.0057 (USD); Mount: Surface Mount; Case/Package: 0402; Case Code (Metric): 1005; Case Code (Imperial): 0402; Contact Plating: Tin; Min Operating Temperature: -55°C; Max Operating Temperature: 155°C; Packaging: Tape and Reel; Package Quantity: 1; Composition: Thick Film; Number of Terminations: 2; Termination: SMD/SMT; Military Standard: Not; Max Power Dissipation: 100mW; Voltage Rating (DC): 50V; Length: 1mm; Height: 0.35mm; Width: 0.02inch; Depth: 0.5mm; Radiation Hardening: No; REACH SVHC: No SVHC; Lead Free: Lead Free; ComponentLink1URL: https://datasheet.ciiva.com/16514/aoa0000ce2-16514277.pdf; ComponentLink1Description: https://datasheet.ciiva.com/16514/aoa0000ce2-16514277.pdf; ComponentLink2URL: https://datasheet.ciiva.com/16449/aoa0000ce2-16449367.pdf; ComponentLink2Description: https://datasheet.ciiva.com/16449/aoa0000ce2-16449367.pdf; ComponentLink3URL: https://datasheet.ciiva.com/30199/aoa0000ce2-30199991.pdf; ComponentLink3Description: https://datasheet.ciiva.com/30199/aoa0000ce2-30199991.pdf; ComponentLink4URL: https://datasheet.ciiva.com/48530/aoa0000ce2-48530967.pdf; ComponentLink4Description: https://datasheet.ciiva.com/48530/aoa0000ce2-48530967.pdf; ComponentLink5URL: https://datasheet.ciiva.com/46389/426256-46389673.pdf; ComponentLink5Description: https://datasheet.ciiva.com/46389/426256-46389673.pdf; ComponentLink6URL: https://datasheet.ciiva.com/9191/aoa0000ce2-9191802.pdf; ComponentLink6Description: https://datasheet.ciiva.com/9191/aoa0000ce2-9191802.pdf; ComponentLink7URL: https://datasheet.ciiva.com/16724/70260748-16724986.pdf; ComponentLink7Description: https://datasheet.ciiva.com/16724/70260748-16724986.pdf; ComponentLink8URL: https://datasheet.ciiva.com/6064/426256-6064510.pdf; ComponentLink8Description: https://datasheet.ciiva.com/6064/426256-6064510.pdf; Supplier Part Number 1: P22.1KLCT-ND
footprint 0402m (0402M)
pins: 1, 2

## NOPE_Resistor 27
designator R?, comment 27
Imported; Manufacturer: Panasonic; Manufacturer Part Number: ERA-2AKD270X; Resistance: 27R; Tolerance: 0.5%; Power Rating: 62.5mW; Temperature Coefficient: 100ppm/°C; Max Power Dissipation: 63mW; Supplier 1: Digi-Key; Stock 1: 24323; Pricing 1: 1=0.1, 10=0.075, 100=0.0307, 1000=0.0138, 2500=0.012, 5000=0.0099 (USD); Mount: Surface Mount; Case/Package: 0402; Case Code (Metric): 1005; Case Code (Imperial): 0402; Contact Plating: Tin; Min Operating Temperature: -55°C; Max Operating Temperature: 155°C; Packaging: Tape and Reel; Package Quantity: 1; Composition: Thin Film; Number of Terminations: 2; Length: 0.039inch; Height: 0.016inch; Width: 0.02inch; Lead Free: Lead Free; ComponentLink1URL: //media.digikey.com/pdf/Data%20Sheets/Panasonic%20Resistors%20Thermistors%20PDFs/ERA_Series_LE.pdf; ComponentLink1Description: //media.digikey.com/pdf/Data%20Sheets/Panasonic%20Resistors%20Thermistors%20PDFs/ERA_Series_LE.pdf; ComponentLink2URL: http://www.mouser.com/ds/2/315/AOA0000CE26-32660.pdf; ComponentLink2Description: http://www.mouser.com/ds/2/315/AOA0000CE26-32660.pdf; ComponentLink3URL: http://www.onlinecomponents.com/datasheet/era-2akd270x.aspx?p=44463982; ComponentLink3Description: http://www.onlinecomponents.com/datasheet/era-2akd270x.aspx?p=44463982; ComponentLink4URL: http://industrial.panasonic.com/www-data/pdf/AOA0000/AOA0000CE26.pdf; ComponentLink4Description: http://industrial.panasonic.com/www-data/pdf/AOA0000/AOA0000CE26.pdf; Supplier Part Number 1: P27DDCT-ND
footprint 0402m (0402M)
pins: 1, 2

## NOPE_Resistor 30K1
designator R?, comment 30K1
Imported; Manufacturer: Panasonic; Manufacturer Part Number: ERJ-2RKF3012X; Resistance: 30.1kR; Power Rating: 100mW; Tolerance: 1%; Voltage Rating: 50V; Temperature Coefficient: 100ppm/°C; Supplier 1: Digi-Key; Stock 1: 597574; Pricing 1: 1=0.1, 10=0.043, 100=0.0176, 1000=0.0079, 2500=0.0069, 5000=0.0057 (USD); Mount: Surface Mount; Case/Package: 0402; Case Code (Metric): 1005; Case Code (Imperial): 0402; Contact Plating: Tin; Min Operating Temperature: -55°C; Max Operating Temperature: 155°C; Packaging: Tape and Reel; Package Quantity: 1; Composition: Thick Film; Number of Terminations: 2; Termination: SMD/SMT; Military Standard: Not; Max Power Dissipation: 100mW; Voltage Rating (DC): 50V; Length: 1mm; Height: 0.016inch; Width: 0.02inch; Depth: 0.5mm; Radiation Hardening: No; REACH SVHC: No SVHC; Lead Free: Lead Free; ComponentLink1URL: https://datasheet.ciiva.com/16780/70260748-16780293.pdf; ComponentLink1Description: https://datasheet.ciiva.com/16780/70260748-16780293.pdf; ComponentLink2URL: https://datasheet.ciiva.com/28563/1678782-28563413.pdf; ComponentLink2Description: https://datasheet.ciiva.com/28563/1678782-28563413.pdf; ComponentLink3URL: https://datasheet.ciiva.com/30108/aoa0000ce2-30108661.pdf; ComponentLink3Description: https://datasheet.ciiva.com/30108/aoa0000ce2-30108661.pdf; ComponentLink4URL: https://datasheet.ciiva.com/9190/aoa0000ce2-9190840.pdf; ComponentLink4Description: https://datasheet.ciiva.com/9190/aoa0000ce2-9190840.pdf; ComponentLink5URL: https://datasheet.ciiva.com/28695/1678782-28695771.pdf; ComponentLink5Description: https://datasheet.ciiva.com/28695/1678782-28695771.pdf; ComponentLink6URL: https://datasheet.ciiva.com/46389/426256-46389467.pdf; ComponentLink6Description: https://datasheet.ciiva.com/46389/426256-46389467.pdf; ComponentLink7URL: https://datasheet.ciiva.com/24025/aoa0000ce2-24025263.pdf; ComponentLink7Description: https://datasheet.ciiva.com/24025/aoa0000ce2-24025263.pdf; Supplier Part Number 1: P30.1KLCT-ND
footprint 0402m (0402M)
pins: 1, 2

## NOPE_Resistor 47 K 1/8W
designator R?, comment 47K
Imported; Partnumber: TNPW060347K0BEEA; Resistance: 47kR; Tolerance: 0.1%; Power Rating: 125mW; Case/Package: 0603; Case Code (Imperial): 0603; Termination: SMD/SMT; Max Power Dissipation: 125mW; Radiation Hardening: No
footprint 0603 res (0603 Res)
pins: 1, 2

## NOPE_Resistor 47 Kohms
designator R?, comment 47K
Imported; Manufacturer_Part_Number: ERA-6AEB473V; Manufacturer: Panasonic ECG; Vendor: Panasonic; Built_By: EMA_UL_Team; C: Copyright (C) 2015 Accelerated Designs. All rights reserved; Resistance: 47kR; Tolerance: 0.1%; Temperature Coefficient: 25ppm/°C; Power Rating: 125mW; Voltage Rating: 100V; RefDes: RefDes; Type: DEV; Value: Value; Supplier 1: Digi-Key; Manufacturer Part Number: ERA-6AEB473V; Stock 1: 186891; Pricing 1: 1=0.36, 10=0.302, 100=0.1182, 1000=0.0495, 2500=0.0454 (USD); Mount: Surface Mount; Case/Package: 0805; Number of Pins: 2; Weight: 0.000194oz; Contact Plating: Tin; Case Code (Metric): 2012; Case Code (Imperial): 0805; Min Operating Temperature: -55°C; Max Operating Temperature: 155°C; Composition: Metal Film,Thin Film; Packaging: Tape and Reel; Package Quantity: 1; Number of Terminations: 2; Termination: SMD/SMT; Military Standard: Not; Max Power Dissipation: 125mW; Voltage Rating (DC): 100V; Length: 2mm; Height: 0.5mm; Width: 1.25mm; Depth: 1.25mm; Radiation Hardening: No; REACH SVHC: No SVHC; Lead Free: Lead Free; ComponentLink1URL: https://datasheet.ciiva.com/6138/485442-6138021.pdf; ComponentLink1Description: https://datasheet.ciiva.com/6138/485442-6138021.pdf; ComponentLink2URL: https://datasheet.ciiva.com/16759/70068849-16759926.pdf; ComponentLink2Description: https://datasheet.ciiva.com/16759/70068849-16759926.pdf; ComponentLink3URL: https://datasheet.ciiva.com/22740/485442-22740326.pdf; ComponentLink3Description: https://datasheet.ciiva.com/22740/485442-22740326.pdf; ComponentLink4URL: https://datasheet.ciiva.com/30061/54aoa0000ce26-30061799.pdf; ComponentLink4Description: https://datasheet.ciiva.com/30061/54aoa0000ce26-30061799.pdf; ComponentLink5URL: https://datasheet.ciiva.com/11812/0900766b80beefcc-11812472.pdf; ComponentLink5Description: https://datasheet.ciiva.com/11812/0900766b80beefcc-11812472.pdf; ComponentLink6URL: https://datasheet.ciiva.com/7802/485442-7802329.pdf; ComponentLink6Description: https://datasheet.ciiva.com/7802/485442-7802329.pdf; ComponentLink7URL: https://datasheet.ciiva.com/16774/70068849-16774537.pdf; ComponentLink7Description: https://datasheet.ciiva.com/16774/70068849-16774537.pdf; ComponentLink8URL: https://datasheet.ciiva.com/48425/era-eng-tds-48425610.pdf; ComponentLink8Description: https://datasheet.ciiva.com/48425/era-eng-tds-48425610.pdf; ComponentLink9URL: https://datasheet.ciiva.com/17209/aoa0000ce26-17209676.pdf; ComponentLink9Description: https://datasheet.ciiva.com/17209/aoa0000ce26-17209676.pdf; ComponentLink10URL: https://datasheet.ciiva.com/43455/485442-43455277.pdf; ComponentLink10Description: https://datasheet.ciiva.com/43455/485442-43455277.pdf; ComponentLink11URL: https://datasheet.ciiva.com/48530/era-eng-tds-48530030.pdf; ComponentLink11Description: https://datasheet.ciiva.com/48530/era-eng-tds-48530030.pdf; ComponentLink12URL: https://datasheet.ciiva.com/26335/453548-da-01-en-widerstand-0805-era-26335717.pdf; ComponentLink12Description: https://datasheet.ciiva.com/26335/453548-da-01-en-widerstand-0805-era-26335717.pdf; Supplier Part Number 1: P47KDACT-ND
footprint RC0805N
footprint rc0805n
pins: 1, 2